# Altium integrated library 219-3LPSTR.IntLib: 1 symbol
Pins are listed as number, name and electrical type; pins without a type are passive.

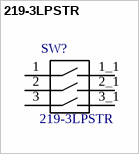
[diagram p0: symbol 219-3LPSTR]

## 219-3LPSTR
designator SW?
/ Dip Switch SPST 3 Position Surface Mount Slide _Standard_ Actuator 100mA 20VDC /; MF: CTS Electrocomponents; SnapEDA_Link: https://www.snapeda.com/parts/219-3LPSTR/CTS%20Electrocomponents/view-part/571936/?ref=snap; Digi-Key_Part_Number: CT3115CT-ND; MP: 219-3LPSTR; Digi-Key_Purchase_URL: https://www.digikey.com/product-detail/en/cts-electrocomponents/219-3LPSTR/CT3115CT-ND/5875767?utm_source=snapeda&utm_medium=aggregator&utm_campaign=symbol; Package: None; Value: *
footprint 3Switch*SW_219-3LPSTR3W219-3LPSTR(Primary)
pins: 1, 1_1, 2, 2_1, 3, 3_1